# EAGLE library part ATTINY84 (library pimoroni-ics)
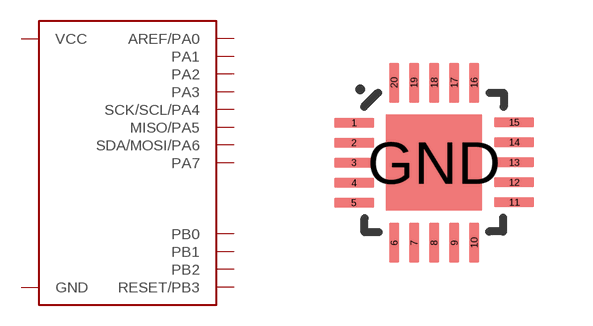
[diagram p10: symbol with the pads of QFN-20; footprint QFN-20]

Designator prefix -

## ATTINY84  [QFN-20]
1  SCK/SCL/PA4
2  PA3
3  PA2
4  PA1
5  AREF/PA0
8  GND
9  VCC
11  PB0
12  PB1
13  RESET/PB3
14  PB2
15  PA7
16  SDA/MOSI/PA6
20  MISO/PA5
GND  GND

## Footprint QFN-20 (pad centres in mm)
smd 1 x 0.25: 1 -2.005,1; 2 -2.005,0.502; 3 -2.005,0.004; 4 -2.005,-0.504; 5 -2.005,-1.002; 11 2.005,-0.99; 12 2.005,-0.492; 13 2.005,0.006; 14 2.005,0.514; 15 2.005,1.012
smd 0.25 x 1: 6 -1,-2.005; 7 -0.502,-2.005; 8 -0.004,-2.005; 9 0.504,-2.005; 10 1.002,-2.005; 16 1,2.005; 17 0.502,2.005; 18 0.004,2.005; 19 -0.504,2.005; 20 -1.002,2.005
smd 2.4 x 2.4: GND 0,0